# Altium schematic symbol library SN65HVD230.SchLib: 1 symbol
Pins are listed as number, name and electrical type; pins without a type are passive.

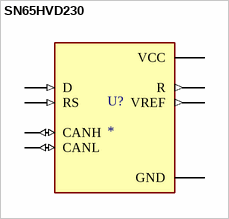
[diagram p0: symbol SN65HVD230]

## SN65HVD230
designator U?
the sn65hvd230 sn65hvd231 and sn65hvd232 controller area network (can) transceivers are designed for use with the tex...; MF: {'manufacturer': u'Texas Instruments'}; Value: *; Package: None; MP: SN65HVD230; Availability: Unavailable; Price: None
footprint SOIC127P599X175-8N
pins: 1 D (in), 2 GND (power), 3 VCC (power), 4 R (out), 5 VREF (out), 6 CANL (io), 7 CANH (io), 8 RS (in)